# Altium schematic symbol library LED_TwoBars.SchLib: 7 symbols
Pins are listed as number, name and electrical type; pins without a type are passive.

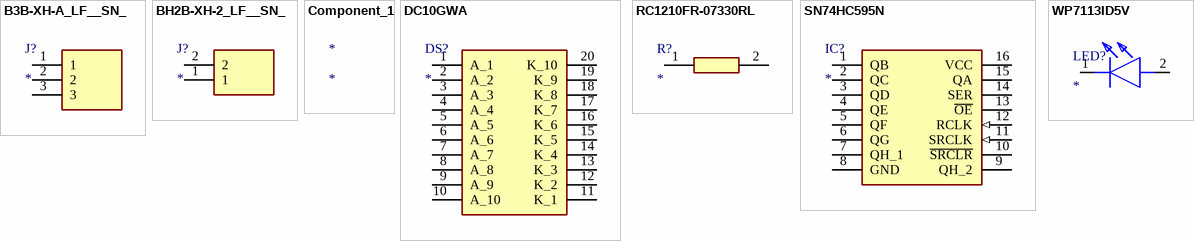
[diagram p0: symbols B3B-XH-A_LF__SN_ to WP7113ID5V]

## B3B-XH-A_LF__SN_
designator J?
Connector; Manufacturer_Name: JST (JAPAN SOLDERLESS TERMINALS); Manufacturer_Part_Number: B3B-XH-A(LF)(SN); Datasheet Link: https://datasheet.lcsc.com/szlcsc/1812131720_JST-Sales-America-B3B-XH-A-LF-SN_C144394.pdf; Height: 7mm; Mouser Part Number: 306-B3BXHALFSNP; Mouser Price/Stock: https://www.mouser.co.uk/ProductDetail/JST-Commercial/B3B-XH-ALFSN?qs=cdbOS8ANM9BVkoboCCIEMQ%3D%3D; Arrow Part Number: B3B-XH-A(LF)(SN); Arrow Price/Stock: https://www.arrow.com/en/products/b3b-xh-a-lf-sn/jst-manufacturing?utm_currency=USD&region=europe
footprint B3BXHALFSN
pins: 1, 2, 3

## BH2B-XH-2_LF__SN_
designator J?
Connector; Manufacturer_Name: JST (JAPAN SOLDERLESS TERMINALS); Manufacturer_Part_Number: BH2B-XH-2(LF)(SN); Datasheet Link: https://www.jst-mfg.com/product/pdf/eng/eXH-H.pdf; Height: 14.2mm; Arrow Part Number: BH2B-XH-2(LF)(SN); Arrow Price/Stock: https://www.arrow.com/en/products/bh2b-xh-2-lf-sn/jst-manufacturing?region=europe
footprint BH2BXH2LFSN
pins: 1, 2

## Component_1
designator *

## DC10GWA
designator DS?
Display; Manufacturer_Name: Kingbright; Manufacturer_Part_Number: DC10GWA; Datasheet Link: http://www.us.kingbright.com/images/catalog/SPEC/DC10GWA.pdf; Height: 8.25mm; Mouser Part Number: 604-DC10GWA; Mouser Price/Stock: https://www.mouser.co.uk/ProductDetail/Kingbright/DC10GWA?qs=E09Sz5t5voWFSEBebdyzXA%3D%3D
footprint DIPS750W75P254L2540H825Q20N
pins: 1 A_1, 2 A_2, 3 A_3, 4 A_4, 5 A_5, 6 A_6, 7 A_7, 8 A_8, 9 A_9, 10 A_10, 11 K_1, 12 K_2, 13 K_3, 14 K_4, 15 K_5, 16 K_6, 17 K_7, 18 K_8, 19 K_9, 20 K_10

## RC1210FR-07330RL
designator R?
Resistor; Manufacturer_Name: Yageo Group; Manufacturer_Part_Number: RC1210FR-07330RL; Datasheet Link: https://www.yageogroup.com/content/datasheet/asset/file/PYU-RC_GROUP_51_ROHS_L; Height: 0.65mm
footprint RESC3126X65N
pins: 1, 2

## SN74HC595N
designator IC?
Integrated Circuit; Manufacturer_Name: Texas Instruments; Manufacturer_Part_Number: SN74HC595N; Datasheet Link: http://www.ti.com/lit/ds/symlink/sn74hc595.pdf; Height: 5.08mm; Mouser Part Number: 595-SN74HC595N; Mouser Price/Stock: https://www.mouser.co.uk/ProductDetail/Texas-Instruments/SN74HC595N?qs=IEl3ej0IqwBTHkYa8XPoMQ%3D%3D; Arrow Part Number: SN74HC595N; Arrow Price/Stock: https://www.arrow.com/en/products/sn74hc595n/texas-instruments?utm_currency=USD&region=nac
footprint DIP794W53P254L1930H508Q16N
pins: 1 QB, 2 QC, 3 QD, 4 QE, 5 QF, 6 QG, 7 QH_1, 8 GND (power), 9 QH_2, 10 ~{SRCLR}, 11 SRCLK (in), 12 RCLK (in), 13 ~{OE}, 14 SER, 15 QA, 16 VCC (power)

## WP7113ID5V
designator LED?
LED; Manufacturer_Name: Kingbright; Manufacturer_Part_Number: WP7113ID5V; Description: Standard LEDs - Through Hole Red 625nm Diffused 30mcd; Datasheet Link: https://www.kingbrightusa.com/images/catalog/SPEC/WP7113ID5V.pdf; Height: 9.85mm; Mouser Part Number: 604-WP7113ID5V; Mouser Price/Stock: https://www.mouser.co.uk/ProductDetail/Kingbright/WP7113ID5V?qs=58z0TXQGVSQgkIxR0kd%2F5Q%3D%3D; Arrow Part Number: WP7113ID5V; Arrow Price/Stock: https://www.arrow.com/en/products/wp7113id5v/kingbright?utm_currency=USD&region=nac
footprint WP7113ID5V
pins: 1 K, 2 A